# Altium schematic symbol library RFVC1801.Schlib: 1 symbol
Pins are listed as number, name and electrical type; pins without a type are passive.

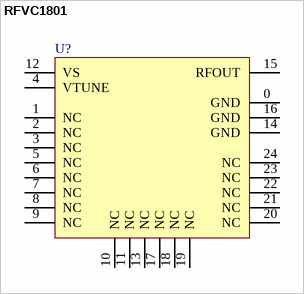
[diagram p0: symbol RFVC1801]

## RFVC1801
designator U?  (value not drawn)
pins: 0 GND (power), 1 NC (power), 2 NC (power), 3 NC (power), 4 VTUNE (power), 5 NC (power), 6 NC (power), 7 NC (power), 8 NC (power), 9 NC (power), 10 NC (power), 11 NC (power), 12 VS (power), 13 NC (power), 14 GND (power), 15 RFOUT (power), 16 GND (power), 17 NC (power), 18 NC (power), 19 NC (power), 20 NC (power), 21 NC (power), 22 NC (power), 23 NC (power), 24 NC (power)